# EAGLE library part MKS1856-6-0-606 (library con-stocko)
Serie MKS 1850 Lötstifte In-line, Raster 2.5 mm, Stiftwannen, stehend, mit Rastlasche Source: http://www.stocko.de/de/index.php?seite=ka_rfk2_mks1850.html&rubrik=Katalog+-+RFK+2 rfk_1850.pdf
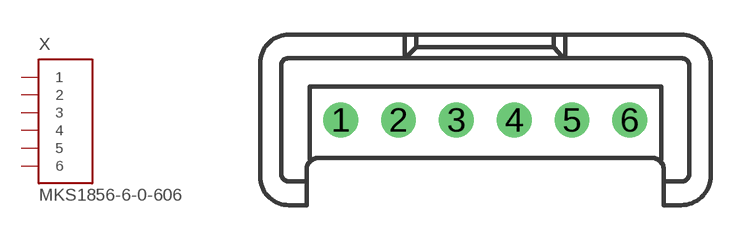
[diagram p0: symbol with the pads of MKS1856-6-0-606; footprint MKS1856-6-0-606]

Designator prefix X

## MKS1856-6-0-606 (OC_FARNELL: 1174959; OC_NEWARK: unknown)  [MKS1856-6-0-606]
1  1  in
2  2  in
3  3  in
4  4  in
5  5  in
6  6  in

## Footprint MKS1856-6-0-606 (pad centres in mm)
Serie MKS 1850 Lötstifte In-line, Raster 2.5 mm, Stiftwannen, stehend, mit Rastlasche Source: http://www.stocko.de/de/index.php?seite=ka_rfk2_mks1850.html&rubrik=Katalog+-+RFK+2 rfk_1850.pdf
drill 1 pad 1.422 round: 1 -6.25,0; 2 -3.75,0; 3 -1.25,0; 4 1.25,0; 5 3.75,0; 6 6.25,0